# Altium schematic symbol library Schlib1.SchLib: 26 symbols
Pins are listed as number, name and electrical type; pins without a type are passive.

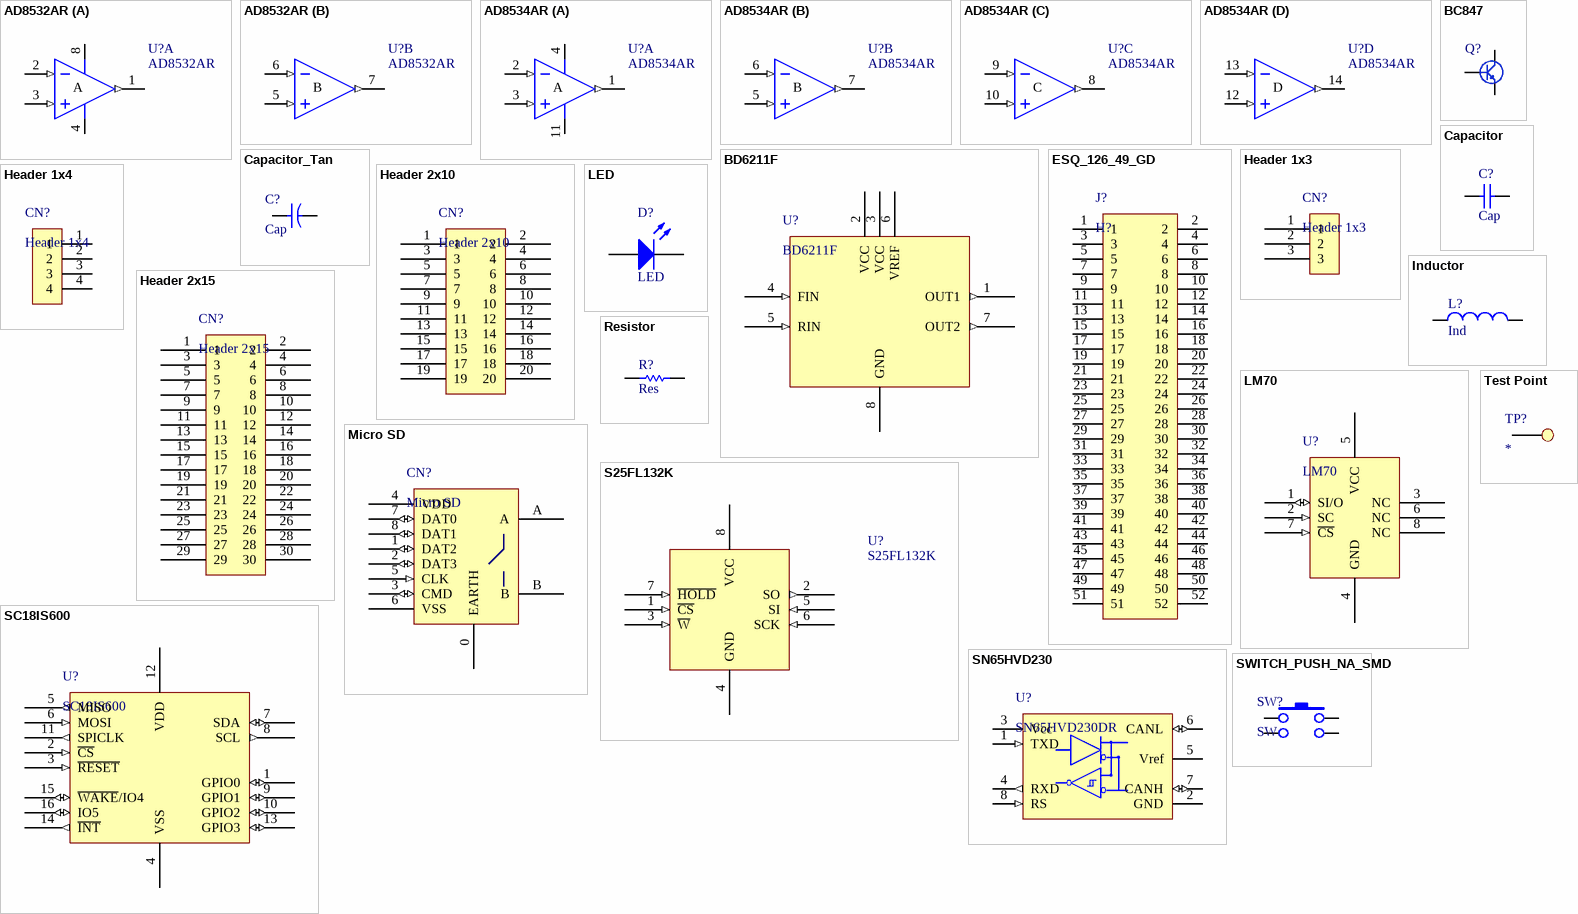
[diagram p0: symbols AD8532AR to Test Point]

## AD8532AR
designator U?
IC OPAMP GP 3MHZ RRO 8SOIC; eVendor Part#: AD8532ARZ-REELCT-ND; Manufacturer: Analog Devices; Part#: AD8532ARZ-REEL; eVendor: Digikey; eVendor Price: 1,47; MSRP: 0,63318; MOQ: 1000; NP: NP
footprint SOIC-8N
part A pins: 1 OUT (out), 2 IN- (in), 3 IN+ (in), 4 (power), 8 (power)
part B pins: 5 IN+ (in), 6 IN- (in), 7 OUT (out)
part A text: A
part B text: B

## AD8534AR
designator U?
IC OPAMP GP 3MHZ RRO 14SOIC; eVendor Part#: AD8534ARZ-REELCT-ND; Manufacturer: Analog Devices; Part#: AD8534ARZ-REEL; eVendor: Digikey; eVendor Price: 1,82; MSRP: 0,84930; MOQ: 1000; NP: NP
footprint SO-14_N (SOIC, 14-Leads, Body 8.7x3.9mm, Pitch 1.27mm, IPC Medium Density)
part A pins: 1 OUT (out), 2 IN- (in), 3 IN+ (in), 4 (power), 11 (power)
part B pins: 5 IN+ (in), 6 IN- (in), 7 OUT (out)
part C pins: 8 OUT (out), 9 IN- (in), 10 IN+ (in)
part D pins: 12 IN+ (in), 13 IN- (in), 14 OUT (out)
part A text: A
part B text: B
part C text: C
part D text: D

## BC847
designator Q?  (value not drawn)
TRANSISTOR NPN 45V 0.1A SOT23; eVendor Part#: BC847BMTFCT-ND; Manufacturer: Fairchild Semiconductor; Part#: BC847BMTF; eVendor: Digikey; eVendor Price: 0,41; MSRP: 0,11; MOQ: 100; NP: NP
footprint SOT23
pins: 1, 2, 3

## BD6211F
designator U?
IC MOTOR DRIVER PAR 8SOP; eVendor Part#: BD6211F-E2CT-ND; Manufacturer: Rohm Semiconductor; Part#: BD6211F-E2; eVendor: Digikey; eVendor Price: 1,95; MSRP: 0,91039; MOQ: 1000; NP: NP
footprint SOIC-8N
pins: 1 OUT1 (out), 2 VCC (power), 3 VCC (power), 4 FIN (in), 5 RIN (in), 6 VREF (power), 7 OUT2 (out), 8 GND (power)

## Capacitor
designator C?, comment Cap
Capacitor; eVendor: *; eVendor Price: *; eVendor Part#: *; Manufacturer: *; Part#: *; MOQ: *; MSRP: *; NP: NP
footprint CC1005-0402 (Chip Capacitor; Body 1.0 x 0.5 mm (LxW typ))
footprint CC1608-0603 (Chip Capacitor; Body 1.6 x 0.8 mm (LxW typ))
footprint CC2012-0805 (Chip Capacitor; Body 2.0 x 1.2 mm (LxW typ))
footprint CC1005-0402_NP (Chip Capacitor; Body 1.0 x 0.5 mm (LxW typ))
footprint CC1608-0603_NP (Chip Capacitor; Body 1.6 x 0.8 mm (LxW typ))
footprint CC3216-1206 (Chip Capacitor, 2-Leads, Body 3,20x1,60mm, IPC Medium Density)
pins: 1, 2

## Capacitor_Tan
designator C?, comment Cap
Capacitor Tantalum; eVendor: *; eVendorPart#: *; Part#: *; eVendorPrice: *; MOQ: *; Manufacturer: *; MSRP: *
footprint CC3216-1206 (Chip Capacitor, 2-Leads, Body 3,20x1,60mm, IPC Medium Density)
pins: 1, 2

## ESQ_126_49_GD
designator J?, comment H?
eVendor: *; eVendor Part#: *; eVendor Price: *; Manufacturer: *; MOQ: *; MSRP: *; Part#: *
footprint ESQ_26
pins: 1, 2, 3, 4, 5, 6, 7, 8, 9, 10, 11, 12, 13, 14, 15, 16, 17, 18, 19, 20, 21, 22, 23, 24, 25, 26, 27, 28, 29, 30, 31, 32, 33, 34, 35, 36, 37, 38, 39, 40, 41, 42, 43, 44, 45, 46, 47, 48, 49, 50, 51, 52

## Header 1x3
designator CN?
SIL VERTICAL PC TAIL PIN HEADER; eVendor Part#: 952-2264-ND; Manufacturer: Harwin Inc; Part#: M20-9990346; eVendor: Digikey; eVendor Price: 0,14; MSRP: 0,0588; MOQ: 1000; NP: NP
footprint HDR1x3 (Connector; Header; 3x1 Position)
pins: 1, 2, 3

## Header 1x4
designator CN?
SIL VERTICAL PC TAIL PIN HEADER; eVendor Part#: 952-2266-ND; Manufacturer: Harwin Inc; Part#: M20-9990446; eVendor: Digikey; eVendor Price: 0,19; MSRP: 0,07770; MOQ: 1000; NP: NP
footprint HDR1x4 (Connector; Header; 4x1 Position)
pins: 1, 2, 3, 4

## Header 2x10
designator CN?
2X10 POS DIL VERT PIN HDR; eVendor Part#: 952-2327-ND; Manufacturer: Harwin Inc; Part#: M20-9971046; eVendor: Digikey; eVendor Price: 0,88; MSRP: 0,4864; MOQ: 1000; NP: NP
footprint HDR2X10 (Connector; Header; 10x2 Position)
pins: 1, 2, 3, 4, 5, 6, 7, 8, 9, 10, 11, 12, 13, 14, 15, 16, 17, 18, 19, 20

## Header 2x15
designator CN?
CONN HEADER FMAL 30PS .1" DL TIN; eVendor Part#: S7083-ND; Manufacturer: Sullins Connector Solutions; Part#: PPTC152LFBN-RC; eVendor: Digikey; eVendor Price: 2,17; MSRP: 0,99617; MOQ: 1000; NP: NP
footprint HDR2X15 (Connector; Header; 15x2 Position)
pins: 1, 2, 3, 4, 5, 6, 7, 8, 9, 10, 11, 12, 13, 14, 15, 16, 17, 18, 19, 20, 21, 22, 23, 24, 25, 26, 27, 28, 29, 30

## Inductor
designator L?, comment Ind
Inductor; eVendor: *; eVendor Price: *; Part#: *; MOQ: *; Manufacturer: *; MSRP: *; eVendor Part#: *; NP: NP
footprint IND_VLF3012 (Inductor TDK  VLF3012 series)
footprint CC3216-1206 (Chip Capacitor, 2-Leads, Body 3,20x1,60mm, IPC Medium Density)
pins: 1, 2

## LED
designator D?
eVendor: *; eVendorPrice: *; MOQ: *; MSRP: *; Part#: *; Manufacturer: *; eVendorPart#: *
footprint LED_0603 (LED 0603)
pins: 1 A, 2 K

## LM70
designator U?
IC TEMP SENSOR DIGITAL 8VSSOP; eVendor Part#: LM70CIMM-5/NOPBCT-ND; Manufacturer: Texas Instruments; Part#: LM70CIMM-5/NOPB; eVendor: Digikey; eVendor Price: 2,73; MSRP: 0,83875; MOQ: 1000; NP: NP
footprint MSOP-8N (TSOP, 8-Leads, Body 3,00x3,00mm, Pitch 0,65mm, IPC Medium Density)
pins: 1 SI/O (io), 2 SC (in), 3 NC, 4 GND (power), 5 VCC (power), 6 NC, 7 ~{CS} (in), 8 NC

## Micro SD
designator CN?
CONN MICRO SD R/A PUSH-PULL SMD; eVendor Part#: HR1941CT-ND; Manufacturer: Hirose Electric Co Ltd; Part#: DM3D-SF; eVendor: Digikey; eVendor Price: 1,92; MSRP: 0,7847; MOQ: 1000; NP: NP
footprint MICROSD
pins: 0 EARTH, 1 DAT2 (io), 2 DAT3 (io), 3 CMD (io), 4 VDD (power), 5 CLK (in), 6 VSS (power), 7 DAT0 (io), 8 DAT1 (io), A, B

## Resistor
designator R?, comment Res
Resistor; eVendor: *; eVendor Price: *; Manufacturer: *; MSRP: *; MOQ: *; Part#: *; NP: NP
footprint CR1005-0402_NP (Chip Resistor; Body 1.1 x 0.5 mm (LxW typ))
footprint CR1608-0603_NP (Chip Resistor; Body 1.6 x 0.8 mm (LxW typ))
footprint CR2012-0805 (Chip Capacitor; Body 2.0 x 1.2 mm (LxW typ))
footprint CR1608-0603 (Chip Resistor; Body 1.6 x 0.8 mm (LxW typ))
footprint CR1005-0402 (Chip Resistor; Body 1.1 x 0.5 mm (LxW typ))
footprint CR3225-1210 (Chip Capacitor; Body 3.2 x 2.5 mm (LxW typ))
footprint CR3216-1206 (Chip Capacitor; Body 3.2 x 1.6 mm (LxW typ))
pins: 1, 2

## S25FL132K
designator U?
Flash 32Mb, 3V, 108Mhz CMOS SPI Flash; Manufacturer: Spansion; eVendor Part#: 797-25FL132K0XMFI041; Part#: S25FL132K0XMFI041; eVendor: Mouser; eVendor Price: 0,58; MSRP: 0,44; MOQ: 1000
footprint SOIC-8N
pins: 1 ~{CS} (in), 2 SO (out), 3 ~{W} (in), 4 GND (power), 5 SI (in), 6 SCK (in), 7 ~{HOLD} (in), 8 VCC (power)

## SC18IS600
designator U?
IC BRIDGE SPI/I2C 16-TSSOP; eVendor Part#: 568-3232-5-ND; Manufacturer: NXP Semiconductors; Part#: SC18IS600IPW,112; eVendor: Digikey; eVendor Price: 2,80; MSRP: 1,40; MOQ: 1000; NP: NP
footprint TSSOP-16N
pins: 1 GPIO0 (io), 2 ~{CS} (in), 3 ~{RESET} (in), 4 VSS (power), 5 MISO (out), 6 MOSI (in), 7 SDA (io), 8 SCL (out), 9 GPIO1 (io), 10 GPIO2 (io), 11 SPICLK (out), 12 VDD (power), 13 GPIO3 (io), 14 ~{INT} (out), 15 ~{WAKE}/IO4 (io), 16 IO5 (io)

## SN65HVD230
designator U?, comment SN65HVD230DR
IC 3.3V CAN TXRX W/STNDBY 8-SOIC; eVendor Part#: 296-11654-1-ND; Manufacturer: Texas Instruments; eVendor: Digikey; eVendor Price: 2,30; MSRP: 0,9; MOQ: 1000; Part#: SN65HVD230DR; NP: NP
footprint SOIC-8N
pins: 1 TXD (in), 2 GND (power), 3 Vcc (power), 4 RXD (out), 5 Vref (power), 6 CANL (io), 7 CANH (io), 8 RS (in)

## SWITCH_PUSH_NA_SMD
designator SW?, comment SW
Switch tact, SMT, SPST, 160gf, 5.25 mm L x 5.25 mm W x 1.5 mm H; Manufacturer: C&K Components; Part#: PTS525SM10SMTR LFS; eVendor Part#: 611-PTS525SM10-LFS; eVendor: Mouser; eVendor Price: 0,48; MSRP: 0,244; MOQ: 1000
footprint PUSH-PTS525
pins: 1, 2, 3, 4

## Test Point
designator TP?  (no BOM)
eVendor: NÃO SE APLICA; eVendorPrice: 0,00; eVendorPart#: NÃO SE APLICA; Part#: NÃO SE APLICA; Manufacturer: NÃO SE APLICA; MOQ: 1000; MSRP: 0,00
footprint Test Point
pins: 1

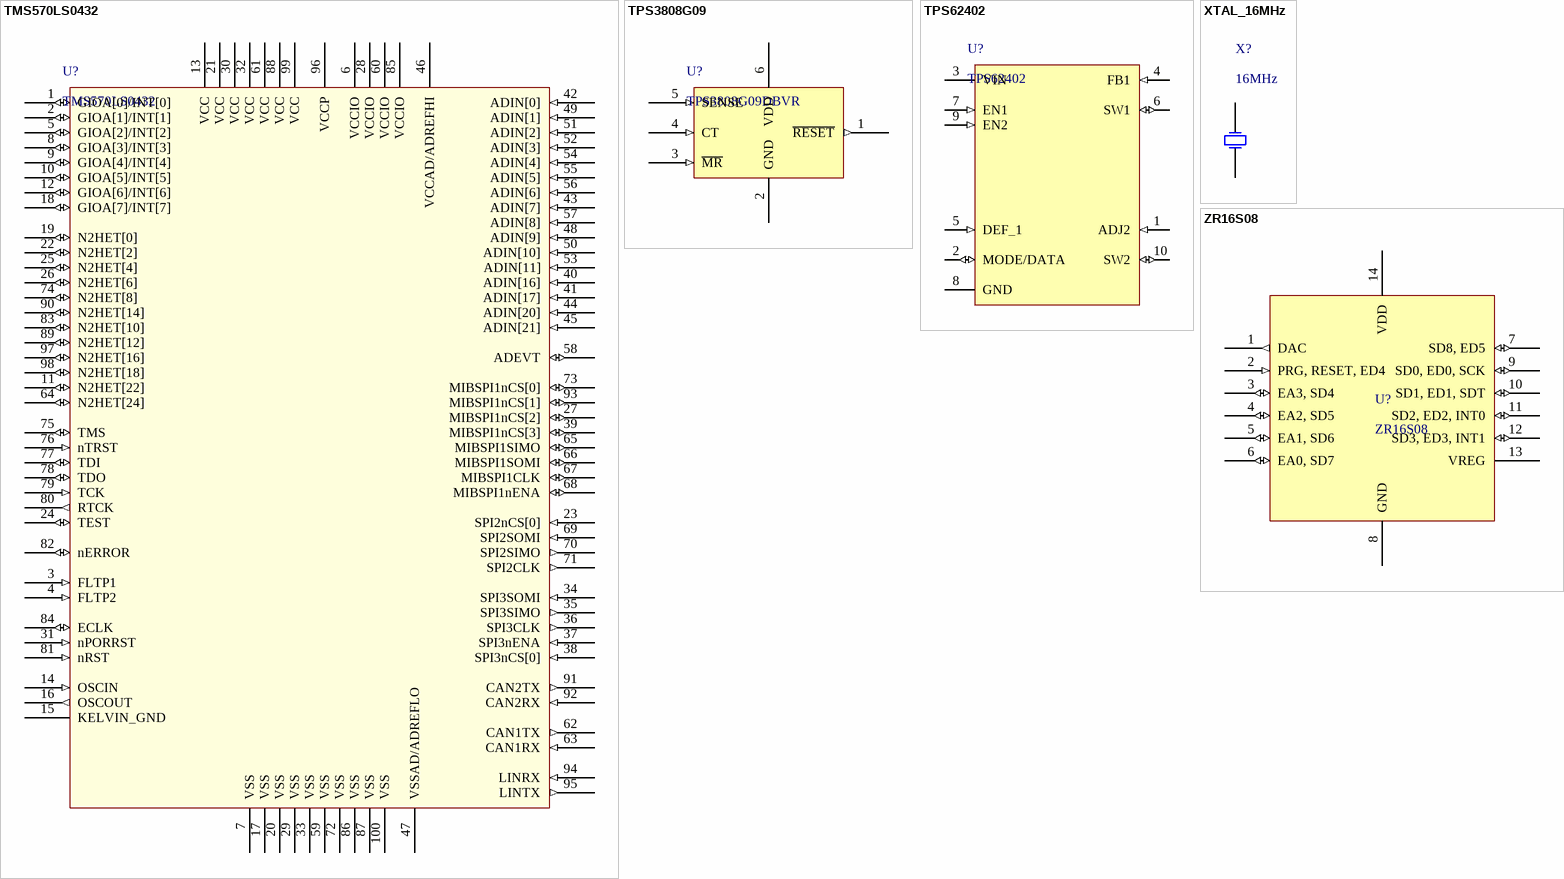
[diagram p1: symbols TMS570LS0432 to ZR16S08]

## TMS570LS0432
designator U?
ARM Microcontrollers - MCU 16/32-Bit RISC Flash MCU; eVendor Part#: 595-TMS5700432APZQQ1; Manufacturer: Texas Instruments; Part#: TMS5700432APZQQ1; eVendor: Mouser; eVendor Price: 11,42; MSRP: 6,91; MOQ: 1000; NP: NP
footprint PQFP-100N (PQFP, 100-Leads, Body 14,00x14,00mm, Pitch 0,50mm, IPC Medium Density)
pins: 1 GIOA[0]/INT[0] (io), 2 GIOA[1]/INT[1] (io), 3 FLTP1 (in), 4 FLTP2 (in), 5 GIOA[2]/INT[2] (io), 6 VCCIO (power), 7 VSS (power), 8 GIOA[3]/INT[3] (io), 9 GIOA[4]/INT[4] (io), 10 GIOA[5]/INT[5] (io), 11 N2HET[22] (io), 12 GIOA[6]/INT[6] (io), 13 VCC (power), 14 OSCIN (in), 15 KELVIN_GND (power), 16 OSCOUT (out), 17 VSS (power), 18 GIOA[7]/INT[7] (io), 19 N2HET[0] (io), 20 VSS (power), 21 VCC (power), 22 N2HET[2] (io), 23 SPI2nCS[0] (in), 24 TEST (io), 25 N2HET[4] (io), 26 N2HET[6] (io), 27 MIBSPI1nCS[2] (io), 28 VCCIO (power), 29 VSS (power), 30 VCC (power), 31 nPORRST (in), 32 VCC (power), 33 VSS (power), 34 SPI3SOMI (in), 35 SPI3SIMO (out), 36 SPI3CLK (out), 37 SPI3nENA (in), 38 SPI3nCS[0] (in), 39 MIBSPI1nCS[3] (io), 40 ADIN[16] (in), 41 ADIN[17] (in), 42 ADIN[0] (in), 43 ADIN[7] (in), 44 ADIN[20] (in), 45 ADIN[21] (in), 46 VCCAD/ADREFHI (power), 47 VSSAD/ADREFLO (power), 48 ADIN[9] (in), 49 ADIN[1] (in), 50 ADIN[10] (in), 51 ADIN[2] (in), 52 ADIN[3] (in), 53 ADIN[11] (in), 54 ADIN[4] (in), 55 ADIN[5] (in), 56 ADIN[6] (in), 57 ADIN[8] (in), 58 ADEVT (io), 59 VSS (power), 60 VCCIO (power), 61 VCC (power), 62 CAN1TX (out), 63 CAN1RX (in), 64 N2HET[24] (io), 65 MIBSPI1SIMO (io), 66 MIBSPI1SOMI (io), 67 MIBSPI1CLK (io), 68 MIBSPI1nENA (io), 69 SPI2SOMI (in), 70 SPI2SIMO (out), 71 SPI2CLK (out), 72 VSS (power), 73 MIBSPI1nCS[0] (io), 74 N2HET[8] (io), 75 TMS (io), 76 nTRST (in), 77 TDI (io), 78 TDO (io), 79 TCK (in), 80 RTCK (out), 81 nRST (in), 82 nERROR (io), 83 N2HET[10] (io), 84 ECLK (io), 85 VCCIO (power), 86 VSS (power), 87 VSS (power), 88 VCC (power), 89 N2HET[12] (io), 90 N2HET[14] (io), 91 CAN2TX (out), 92 CAN2RX (in), 93 MIBSPI1nCS[1] (io), 94 LINRX (in), 95 LINTX (out), 96 VCCP (power), 97 N2HET[16] (io), 98 N2HET[18] (io), 99 VCC (power), 100 VSS (power)

## TPS3808G09
designator U?, comment TPS3808G09DBVR
IC VOLT SUPERVISOR 0.9V SOT23-6; eVendor Part#: 296-17189-1-ND; Manufacturer: Texas Instruments; eVendor: Digikey; eVendor Price: 1,95; MSRP: 0,765; MOQ: 1000; NP: NP; Part#: TPS3808G09DBVR
footprint SOT23-6N (SOT23, 6-Leads, Body 2,90x2,80mm, Pitch 0,95mm, IPC Medium Density)
pins: 1 ~{RESET} (out), 2 GND (power), 3 ~{MR} (in), 4 CT (in), 5 SENSE (in), 6 VDD (power)

## TPS62402
designator U?
IC REG BUCK SYNC PROG DL 10SON; Part#: TPS62402DRCT; Manufacturer: Texas Instruments; eVendor Part#: 296-21646-1-ND; eVendor: Digikey; eVendor Price: 2,81; MSRP: 2,0416; MOQ: 1000; NP: NP
footprint SON10
pins: 1 ADJ2 (in), 2 MODE/DATA (io), 3 VIN (power), 4 FB1 (in), 5 DEF_1 (in), 6 SW1 (io), 7 EN1 (in), 8 GND, 9 EN2 (in), 10 SW2 (io)

## XTAL_16MHz
designator X?, comment 16MHz
CRYSTAL 16MHZ 20PF SMD; eVendor Part#: XC1776CT-ND; Part#: ECS-160-20-3X-TR; Manufacturer: ECS Inc; eVendor: Digikey; eVendor Price: 0,53; MSRP: 0,21; MOQ: 1000; NP: NP
footprint CSM3X
pins: 1 OSC1, 2 OSC2

## ZR16S08
designator U?
eVendor: SMDH; eVendorPart#: *; eVendorPrice: *; Manufacture: SMDH; MOQ: *; MSRP: *; PART#: *
footprint ZR16S08-SOIC (SOIC, 16-Leads, Body 9,90x3,90mm, Pitch 1,27mm, IPC Medium Density)
pins: 1 DAC (out), 2 PRG, RESET, ED4 (in), 3 EA3, SD4 (io), 4 EA2, SD5 (io), 5 EA1, SD6 (io), 6 EA0, SD7 (io), 7 SD8, ED5 (io), 8 GND, 9 SD0, ED0, SCK (io), 10 SD1, ED1, SDT (io), 11 SD2, ED2, INT0 (io), 12 SD3, ED3, INT1 (io), 13 VREG (power), 14 VDD